# Altium integrated library FPGA Legacy Peripherals.IntLib: 30 symbols
Pins are listed as number, name and electrical type; pins without a type are passive.

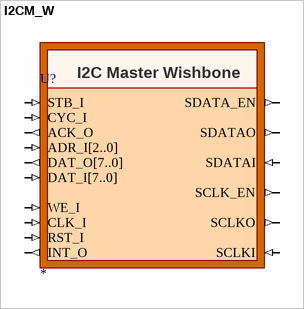
[diagram p0: symbol I2CM_W]

## I2CM_W
designator U?
I2C Master Wishbone; UseInDSF: True; Published: 9-Dec-2004; Publisher: Altium Limited; ComponentLink1Description: Core &Resource Usage; ComponentLink1URL: CR0139 FPGA Peripheral Resource Usage.pdf#page=17; HelpURL: https://wiki.altium.com/download/attachments/3080710/CR0105+I2CM+Controller.PDF?version=1; LastRevisionNo: 1.00.00
pins: ACK_O (out), ADR_I[2..0] (in), CLK_I (in), CYC_I (in), DAT_I[7..0] (in), DAT_O[7..0] (out), INT_O (out), RST_I (in), SCLK_EN (out), SCLKI (in), SCLKO (out), SDATA_EN (out), SDATAI (in), SDATAO (out), STB_I (in), WE_I (in)


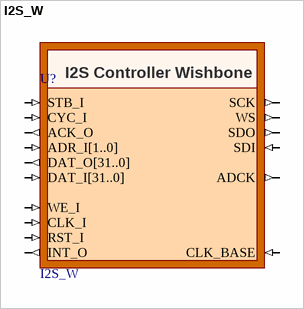
[diagram p1: symbol I2S_W]

## I2S_W
designator U?
I2S Controller Wishbone; UseInDSF: True; ComponentLink1Description: Core &Resource Usage; ComponentLink1URL: CR0139 FPGA Peripheral Resource Usage.pdf#page=18; HelpURL: https://wiki.altium.com/download/attachments/3080708/CR0160+I2S_W+Audio+Streaming+Controller.PDF?version=1; LastRevisionNo: 1.00.00; Published: 27-Mar-2005; Publisher: Altium Limited
pins: ACK_O (out), ADCK (out), ADR_I[1..0] (in), CLK_BASE (in), CLK_I (in), CYC_I (in), DAT_I[31..0] (in), DAT_O[31..0] (out), INT_O (out), RST_I (in), SCK (out), SDI (in), SDO (out), STB_I (in), WE_I (in), WS (out)


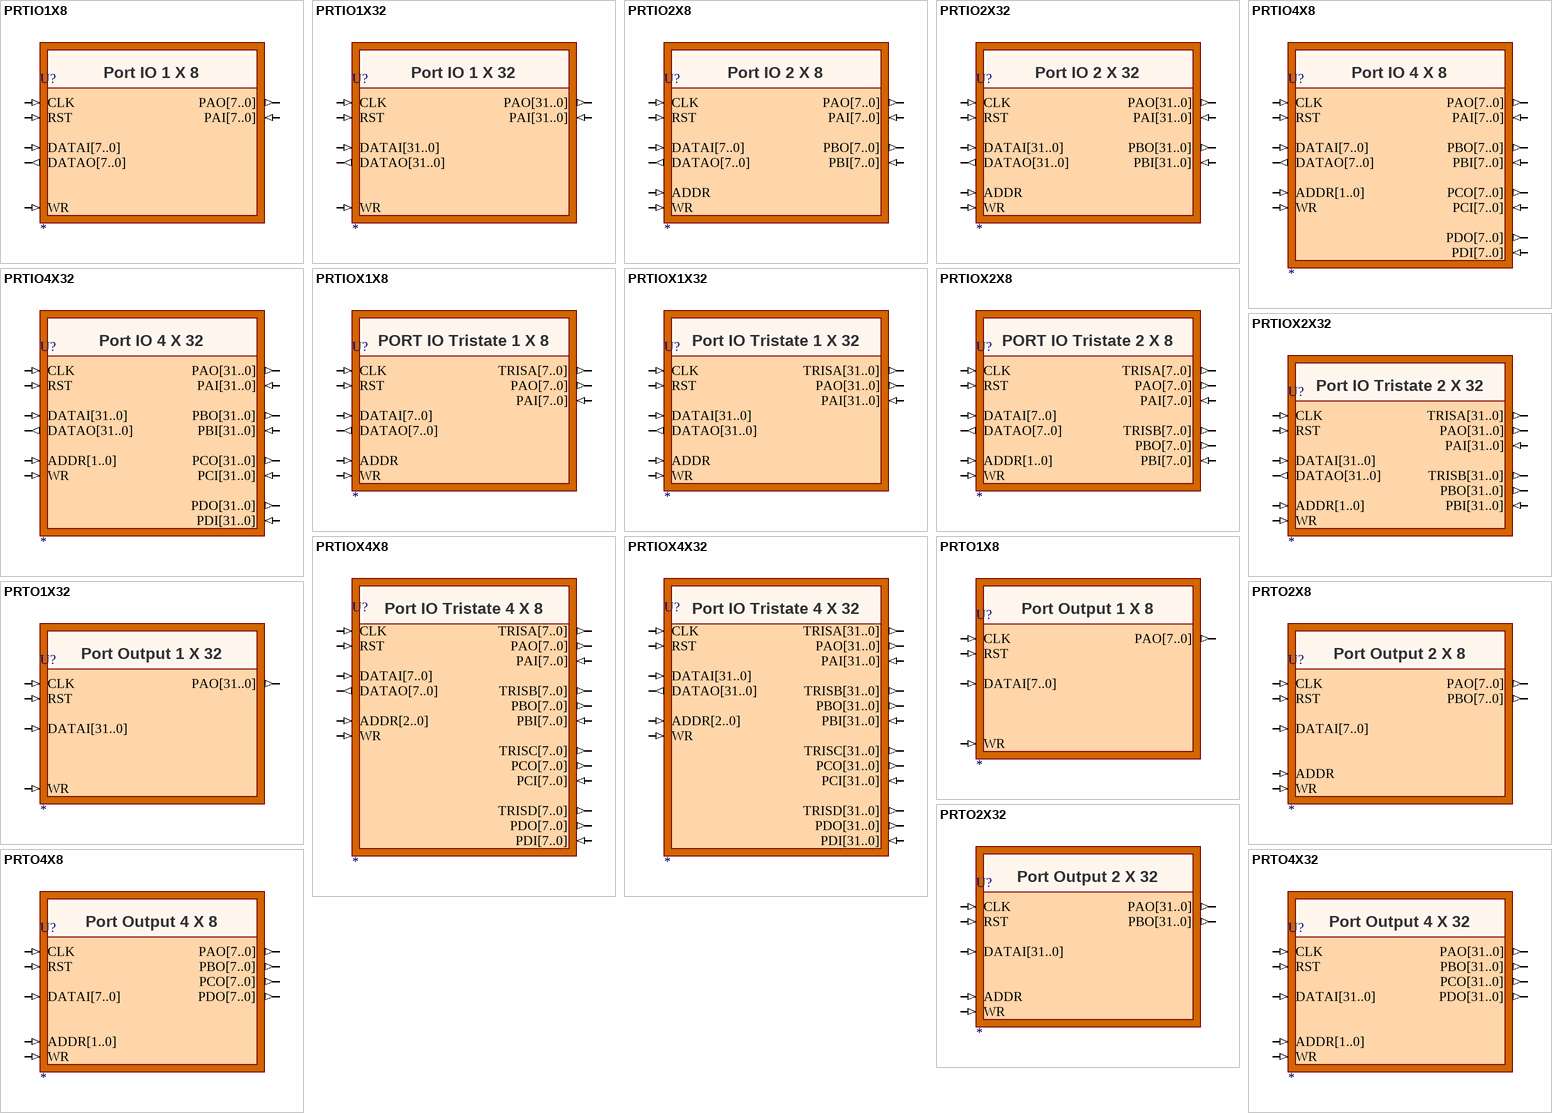
[diagram p2: symbols PRTIO1X8 to PRTO4X32]

## PRTIO1X8
designator U?
Port IO 1 x 8; Published: 9-Dec-2004; Publisher: Altium Limited; ComponentLink1Description: Core &Resource Usage; ComponentLink1URL: CR0139 FPGA Peripheral Resource Usage.pdf#page=26; HelpURL: https://wiki.altium.com/download/attachments/3080710/CR0108+PRTx+Parallel+Port+Unit.PDF?version=1; LastRevisionNo: 1.00.00
pins: CLK (in), DATAI[7..0] (in), DATAO[7..0] (out), PAI[7..0] (in), PAO[7..0] (out), RST (in), WR (in)
text: Port IO 1 X 8

## PRTIO1X32
designator U?
Port IO 1 x 32; Published: 9-Dec-2004; Publisher: Altium Limited; ComponentLink1Description: Core &Resource Usage; ComponentLink1URL: CR0139 FPGA Peripheral Resource Usage.pdf#page=28; HelpURL: https://wiki.altium.com/download/attachments/3080710/CR0108+PRTx+Parallel+Port+Unit.PDF?version=1; LastRevisionNo: 1.00.00
pins: CLK (in), DATAI[31..0] (in), DATAO[31..0] (out), PAI[31..0] (in), PAO[31..0] (out), RST (in), WR (in)
text: Port IO 1 X 32

## PRTIO2X8
designator U?
Port IO 2 x 8; Published: 9-Dec-2004; Publisher: Altium Limited; ComponentLink1Description: Core &Resource Usage; ComponentLink1URL: CR0139 FPGA Peripheral Resource Usage.pdf#page=30; HelpURL: https://wiki.altium.com/download/attachments/3080710/CR0108+PRTx+Parallel+Port+Unit.PDF?version=1; LastRevisionNo: 1.00.00
pins: ADDR (in), CLK (in), DATAI[7..0] (in), DATAO[7..0] (out), PAI[7..0] (in), PAO[7..0] (out), PBI[7..0] (in), PBO[7..0] (out), RST (in), WR (in)
text: Port IO 2 X 8

## PRTIO2X32
designator U?
Port IO 2 x 32; Published: 9-Dec-2004; Publisher: Altium Limited; ComponentLink1Description: Core &Resource Usage; ComponentLink1URL: CR0139 FPGA Peripheral Resource Usage.pdf#page=32; HelpURL: https://wiki.altium.com/download/attachments/3080710/CR0108+PRTx+Parallel+Port+Unit.PDF?version=1; LastRevisionNo: 1.00.00
pins: ADDR (in), CLK (in), DATAI[31..0] (in), DATAO[31..0] (out), PAI[31..0] (in), PAO[31..0] (out), PBI[31..0] (in), PBO[31..0] (out), RST (in), WR (in)
text: Port IO 2 X 32

## PRTIO4X8
designator U?
Port IO 4 x 8; Published: 9-Dec-2004; Publisher: Altium Limited; ComponentLink1Description: Core &Resource Usage; ComponentLink1URL: CR0139 FPGA Peripheral Resource Usage.pdf#page=34; HelpURL: https://wiki.altium.com/download/attachments/3080710/CR0108+PRTx+Parallel+Port+Unit.PDF?version=1; LastRevisionNo: 1.00.00
pins: ADDR[1..0] (in), CLK (in), DATAI[7..0] (in), DATAO[7..0] (out), PAI[7..0] (in), PAO[7..0] (out), PBI[7..0] (in), PBO[7..0] (out), PCI[7..0] (in), PCO[7..0] (out), PDI[7..0] (in), PDO[7..0] (out), RST (in), WR (in)
text: Port IO 4 X 8

## PRTIO4X32
designator U?
Port IO 4 x 32; Published: 9-Dec-2004; Publisher: Altium Limited; ComponentLink1Description: Core &Resource Usage; ComponentLink1URL: CR0139 FPGA Peripheral Resource Usage.pdf#page=36; HelpURL: https://wiki.altium.com/download/attachments/3080710/CR0108+PRTx+Parallel+Port+Unit.PDF?version=1; LastRevisionNo: 1.00.00
pins: ADDR[1..0] (in), CLK (in), DATAI[31..0] (in), DATAO[31..0] (out), PAI[31..0] (in), PAO[31..0] (out), PBI[31..0] (in), PBO[31..0] (out), PCI[31..0] (in), PCO[31..0] (out), PDI[31..0] (in), PDO[31..0] (out), RST (in), WR (in)
text: Port IO 4 X 32

## PRTIOX1X8
designator U?
Port IO Tristate 1 x 8; Published: 9-Dec-2004; Publisher: Altium Limited; ComponentLink1Description: Core &Resource Usage; ComponentLink1URL: CR0139 FPGA Peripheral Resource Usage.pdf#page=37; HelpURL: https://wiki.altium.com/download/attachments/3080710/CR0108+PRTx+Parallel+Port+Unit.PDF?version=1; LastRevisionNo: 1.00.00
pins: ADDR (in), CLK (in), DATAI[7..0] (in), DATAO[7..0] (out), PAI[7..0] (in), PAO[7..0] (out), RST (in), TRISA[7..0] (out), WR (in)
text: PORT IO Tristate 1 X 8

## PRTIOX1X32
designator U?
Port IO Tristate 1 x 32; Published: 9-Dec-2004; Publisher: Altium Limited; HelpURL: https://wiki.altium.com/download/attachments/3080710/CR0108+PRTx+Parallel+Port+Unit.PDF?version=1; LastRevisionNo: 1.00.00; ComponentLink1Description: Core &Resource Usage; ComponentLink1URL: CR0139 FPGA Peripheral Resource Usage.pdf#page=39
pins: ADDR (in), CLK (in), DATAI[31..0] (in), DATAO[31..0] (out), PAI[31..0] (in), PAO[31..0] (out), RST (in), TRISA[31..0] (out), WR (in)
text: Port IO Tristate 1 X 32

## PRTIOX2X8
designator U?
Port IO Tristate 2 x 8; Published: 9-Dec-2004; Publisher: Altium Limited; ComponentLink1Description: Core &Resource Usage; ComponentLink1URL: CR0139 FPGA Peripheral Resource Usage.pdf#page=41; HelpURL: https://wiki.altium.com/download/attachments/3080710/CR0108+PRTx+Parallel+Port+Unit.PDF?version=1; LastRevisionNo: 1.00.00
pins: ADDR[1..0] (in), CLK (in), DATAI[7..0] (in), DATAO[7..0] (out), PAI[7..0] (in), PAO[7..0] (out), PBI[7..0] (in), PBO[7..0] (out), RST (in), TRISA[7..0] (out), TRISB[7..0] (out), WR (in)
text: PORT IO Tristate 2 X 8

## PRTIOX2X32
designator U?
Port IO Tristate 2 x 32; Published: 9-Dec-2004; Publisher: Altium Limited; HelpURL: https://wiki.altium.com/download/attachments/3080710/CR0108+PRTx+Parallel+Port+Unit.PDF?version=1; LastRevisionNo: 1.00.00; ComponentLink1Description: Core &Resource Usage; ComponentLink1URL: CR0139 FPGA Peripheral Resource Usage.pdf#page=43
pins: ADDR[1..0] (in), CLK (in), DATAI[31..0] (in), DATAO[31..0] (out), PAI[31..0] (in), PAO[31..0] (out), PBI[31..0] (in), PBO[31..0] (out), RST (in), TRISA[31..0] (out), TRISB[31..0] (out), WR (in)
text: Port IO Tristate 2 X 32

## PRTIOX4X8
designator U?
Port IO Tristate 4 x 8; Published: 9-Dec-2004; Publisher: Altium Limited; ComponentLink1Description: Core &Resource Usage; ComponentLink1URL: CR0139 FPGA Peripheral Resource Usage.pdf#page=44; HelpURL: https://wiki.altium.com/download/attachments/3080710/CR0108+PRTx+Parallel+Port+Unit.PDF?version=1; LastRevisionNo: 1.00.00
pins: ADDR[2..0] (in), CLK (in), DATAI[7..0] (in), DATAO[7..0] (out), PAI[7..0] (in), PAO[7..0] (out), PBI[7..0] (in), PBO[7..0] (out), PCI[7..0] (in), PCO[7..0] (out), PDI[7..0] (in), PDO[7..0] (out), RST (in), TRISA[7..0] (out), TRISB[7..0] (out), TRISC[7..0] (out), TRISD[7..0] (out), WR (in)
text: Port IO Tristate 4 X 8

## PRTIOX4X32
designator U?
Port IO Tristate 4 x 32; Published: 9-Dec-2004; Publisher: Altium Limited; HelpURL: https://wiki.altium.com/download/attachments/3080710/CR0108+PRTx+Parallel+Port+Unit.PDF?version=1; LastRevisionNo: 1.00.00; ComponentLink1Description: Core &Resource Usage; ComponentLink1URL: CR0139 FPGA Peripheral Resource Usage.pdf#page=46
pins: ADDR[2..0] (in), CLK (in), DATAI[31..0] (in), DATAO[31..0] (out), PAI[31..0] (in), PAO[31..0] (out), PBI[31..0] (in), PBO[31..0] (out), PCI[31..0] (in), PCO[31..0] (out), PDI[31..0] (in), PDO[31..0] (out), RST (in), TRISA[31..0] (out), TRISB[31..0] (out), TRISC[31..0] (out), TRISD[31..0] (out), WR (in)
text: Port IO Tristate 4 X 32

## PRTO1X8
designator U?
Port Output 1x8; Published: 9-Dec-2004; Publisher: Altium Limited; ComponentLink1Description: Core &Resource Usage; ComponentLink1URL: CR0139 FPGA Peripheral Resource Usage.pdf#page=47; HelpURL: https://wiki.altium.com/download/attachments/3080710/CR0108+PRTx+Parallel+Port+Unit.PDF?version=1; LastRevisionNo: 1.00.00
pins: CLK (in), DATAI[7..0] (in), PAO[7..0] (out), RST (in), WR (in)
text: Port Output 1 X 8

## PRTO1X32
designator U?
Port Output 1x32; Published: 9-Dec-2004; Publisher: Altium Limited; ComponentLink1Description: Core &Resource Usage; ComponentLink1URL: CR0139 FPGA Peripheral Resource Usage.pdf#page=49; HelpURL: https://wiki.altium.com/download/attachments/3080710/CR0108+PRTx+Parallel+Port+Unit.PDF?version=1; LastRevisionNo: 1.00.00
pins: CLK (in), DATAI[31..0] (in), PAO[31..0] (out), RST (in), WR (in)
text: Port Output 1 X 32

## PRTO2X8
designator U?
Port Output 2x8; Published: 9-Dec-2004; Publisher: Altium Limited; ComponentLink1Description: Core &Resource Usage; ComponentLink1URL: CR0139 FPGA Peripheral Resource Usage.pdf#page=51; HelpURL: https://wiki.altium.com/download/attachments/3080710/CR0108+PRTx+Parallel+Port+Unit.PDF?version=1; LastRevisionNo: 1.00.00
pins: ADDR (in), CLK (in), DATAI[7..0] (in), PAO[7..0] (out), PBO[7..0] (out), RST (in), WR (in)
text: Port Output 2 X 8

## PRTO2X32
designator U?
Port Output 2x32; Published: 9-Dec-2004; Publisher: Altium Limited; ComponentLink1Description: Core &Resource Usage; ComponentLink1URL: CR0139 FPGA Peripheral Resource Usage.pdf#page=53; HelpURL: https://wiki.altium.com/download/attachments/3080710/CR0108+PRTx+Parallel+Port+Unit.PDF?version=1; LastRevisionNo: 1.00.00
pins: ADDR (in), CLK (in), DATAI[31..0] (in), PAO[31..0] (out), PBO[31..0] (out), RST (in), WR (in)
text: Port Output 2 X 32

## PRTO4X8
designator U?
Port Output 4x8; Published: 9-Dec-2004; Publisher: Altium Limited; ComponentLink1Description: Core &Resource Usage; ComponentLink1URL: CR0139 FPGA Peripheral Resource Usage.pdf#page=55; HelpURL: https://wiki.altium.com/download/attachments/3080710/CR0108+PRTx+Parallel+Port+Unit.PDF?version=1; LastRevisionNo: 1.00.00
pins: ADDR[1..0] (in), CLK (in), DATAI[7..0] (in), PAO[7..0] (out), PBO[7..0] (out), PCO[7..0] (out), PDO[7..0] (out), RST (in), WR (in)
text: Port Output 4 X 8

## PRTO4X32
designator U?
Port Output 4x32; Published: 9-Dec-2004; Publisher: Altium Limited; ComponentLink1Description: Core &Resource Usage; ComponentLink1URL: CR0139 FPGA Peripheral Resource Usage.pdf#page=57; HelpURL: https://wiki.altium.com/download/attachments/3080710/CR0108+PRTx+Parallel+Port+Unit.PDF?version=1; LastRevisionNo: 1.00.00
pins: ADDR[1..0] (in), CLK (in), DATAI[31..0] (in), PAO[31..0] (out), PBO[31..0] (out), PCO[31..0] (out), PDO[31..0] (out), RST (in), WR (in)
text: Port Output 4 X 32


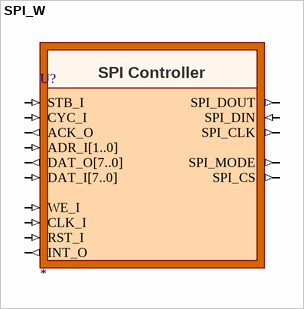
[diagram p3: symbol SPI_W]

## SPI_W
designator U?
SPI Controller Wishbone; UseInDSF: True; Published: 9-Dec-2004; Publisher: Altium Limited; ComponentLink1Description: Core &Resource Usage; ComponentLink1URL: CR0139 FPGA Peripheral Resource Usage.pdf#page=61; HelpURL: https://wiki.altium.com/download/attachments/3080708/CR0153+SPI_W+Serial+Peripheral+Interface+Controller.PDF?version=1; LastRevisionNo: 1.05.01; LatestRevisionNote: Correction for the busy signal generation; LatestRevisionDate: 6-Sep-2005
pins: ACK_O (out), ADR_I[1..0] (in), CLK_I (in), CYC_I (in), DAT_I[7..0] (in), DAT_O[7..0] (out), INT_O (out), RST_I (in), SPI_CLK (out), SPI_CS (out), SPI_DIN (in), SPI_DOUT (out), SPI_MODE (out), STB_I (in), WE_I (in)
text: SPI Controller


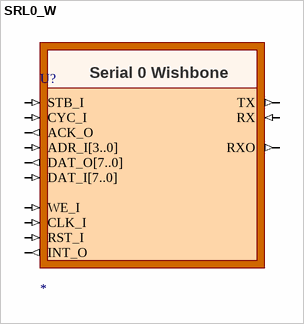
[diagram p4: symbol SRL0_W]

## SRL0_W
designator U?
Serial 0 Wishbone; UseInDSF: True; Published: 9-Dec-2004; Publisher: Altium Limited; ComponentLink1Description: Core &Resource Usage; ComponentLink1URL: CR0139 FPGA Peripheral Resource Usage.pdf#page=63; HelpURL: https://wiki.altium.com/download/attachments/3080710/CR0111+SRL0+Serial+Port+Unit.PDF?version=1; LastRevisionNo: 1.00.00
pins: ACK_O (out), ADR_I[3..0] (in), CLK_I (in), CYC_I (in), DAT_I[7..0] (in), DAT_O[7..0] (out), INT_O (out), RST_I (in), RX (in), RXO (out), STB_I (in), TX (out), WE_I (in)


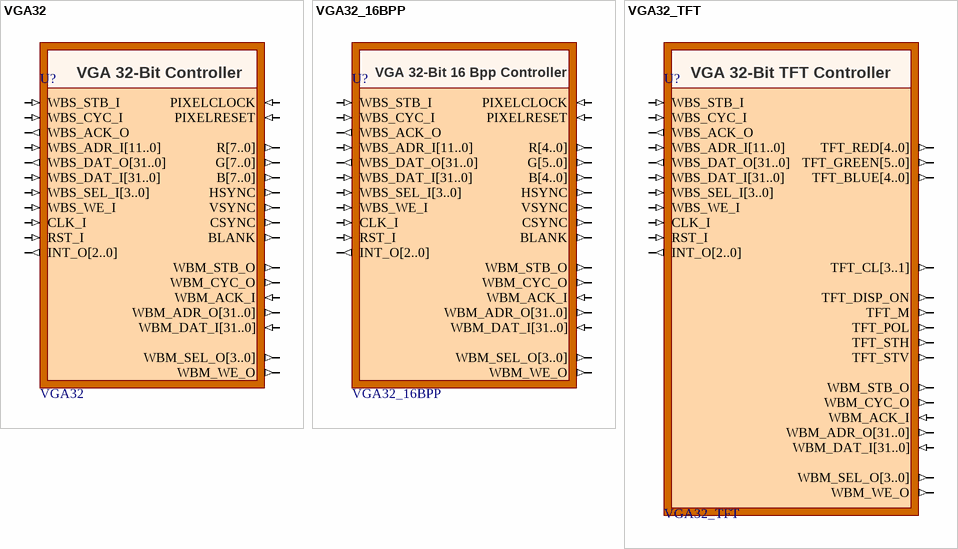
[diagram p5: symbols VGA32 to VGA32_TFT]

## VGA32
designator U?
VGA 32-Bit Controller; UseInDSF: True; ComponentLink1Description: Core &Resource Usage; ComponentLink1URL: CR0139 FPGA Peripheral Resource Usage.pdf#page=67; HelpURL: https://wiki.altium.com/display/ADOH/VGA32+-+Wishbone+32-bit+VGA+Controller; LastRevisionNo: 1.00.00; Published: 9-Dec-2004; Publisher: Altium Limited
pins: B[7..0] (out), BLANK (out), CLK_I (in), CSYNC (out), G[7..0] (out), HSYNC (out), INT_O[2..0] (out), PIXELCLOCK (in), PIXELRESET (in), R[7..0] (out), RST_I (in), VSYNC (out), WBM_ACK_I (in), WBM_ADR_O[31..0] (out), WBM_CYC_O (out), WBM_DAT_I[31..0] (in), WBM_SEL_O[3..0] (out), WBM_STB_O (out), WBM_WE_O (out), WBS_ACK_O (out), WBS_ADR_I[11..0] (in), WBS_CYC_I (in), WBS_DAT_I[31..0] (in), WBS_DAT_O[31..0] (out), WBS_SEL_I[3..0] (in), WBS_STB_I (in), WBS_WE_I (in)

## VGA32_16BPP
designator U?
VGA 32-Bit 16 Bpp Controller; UseInDSF: True; ComponentLink1Description: Core &Resource Usage; ComponentLink1URL: CR0139 FPGA Peripheral Resource Usage.pdf#page=68; HelpURL: https://wiki.altium.com/display/ADOH/VGA32_16BPP+-+Wishbone+32-bit+VGA+Controller+with+16bpp+Data+Support; LastRevisionNo: 1.00.00; Published: 27-Mar-2005; Publisher: Altium Limited
pins: B[4..0] (out), BLANK (out), CLK_I (in), CSYNC (out), G[5..0] (out), HSYNC (out), INT_O[2..0] (out), PIXELCLOCK (in), PIXELRESET (in), R[4..0] (out), RST_I (in), VSYNC (out), WBM_ACK_I (in), WBM_ADR_O[31..0] (out), WBM_CYC_O (out), WBM_DAT_I[31..0] (in), WBM_SEL_O[3..0] (out), WBM_STB_O (out), WBM_WE_O (out), WBS_ACK_O (out), WBS_ADR_I[11..0] (in), WBS_CYC_I (in), WBS_DAT_I[31..0] (in), WBS_DAT_O[31..0] (out), WBS_SEL_I[3..0] (in), WBS_STB_I (in), WBS_WE_I (in)

## VGA32_TFT
designator U?
VGA 32-Bit TFT Controller; UseInDSF: True; ComponentLink1Description: Core &Resource Usage; ComponentLink1URL: CR0139 FPGA Peripheral Resource Usage.pdf#page=69; HelpURL: https://wiki.altium.com/display/ADOH/VGA32_TFT+-+Wishbone+32-bit+VGA+Controller+with+TFT+Interface; LastRevisionNo: 1.00.00; Published: 27-Mar-2005; Publisher: Altium Limited
pins: CLK_I (in), INT_O[2..0] (out), RST_I (in), TFT_BLUE[4..0] (out), TFT_CL[3..1] (out), TFT_DISP_ON (out), TFT_GREEN[5..0] (out), TFT_M (out), TFT_POL (out), TFT_RED[4..0] (out), TFT_STH (out), TFT_STV (out), WBM_ACK_I (in), WBM_ADR_O[31..0] (out), WBM_CYC_O (out), WBM_DAT_I[31..0] (in), WBM_SEL_O[3..0] (out), WBM_STB_O (out), WBM_WE_O (out), WBS_ACK_O (out), WBS_ADR_I[11..0] (in), WBS_CYC_I (in), WBS_DAT_I[31..0] (in), WBS_DAT_O[31..0] (out), WBS_SEL_I[3..0] (in), WBS_STB_I (in), WBS_WE_I (in)


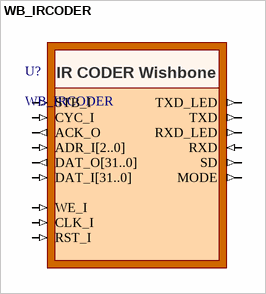
[diagram p6: symbol WB_IRCODER]

## WB_IRCODER
designator U?
ComponentLink1Description: Core &Resource Usage; LastRevisionNo: 1.00.00; Published: 31-Jul-2007; Publisher: Altium Limited; HelpURL: https://wiki.altium.com/download/attachments/3080708/CR0183+WB_IRCODER+Infrared+Encoder.PDF?version=1
pins: ACK_O (out), ADR_I[2..0] (in), CLK_I (in), CYC_I (in), DAT_I[31..0] (in), DAT_O[31..0] (out), MODE (out), RST_I (in), RXD (in), RXD_LED (out), SD (out), STB_I (in), TXD (out), TXD_LED (out), WE_I (in)
text: IR CODER Wishbone


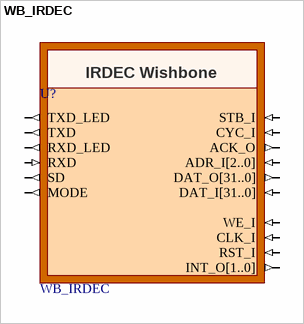
[diagram p7: symbol WB_IRDEC]

## WB_IRDEC
designator U?
UseInDSF: True; ComponentLink1Description: Core &Resource Usage; LastRevisionNo: 1.00.00; Published: 8-Jun-2007; Publisher: Altium Limited; ComponentLink1URL: CR0139 FPGA Peripheral Resource Usage.pdf#page=82; HelpURL: https://wiki.altium.com/download/attachments/3080708/CR0173+WB_IRDEC+Infrared+Decoder.PDF?version=1
pins: ACK_O (out), ADR_I[2..0] (in), CLK_I (in), CYC_I (in), DAT_I[31..0] (in), DAT_O[31..0] (out), INT_O[1..0] (out), MODE (out), RST_I (in), RXD (in), RXD_LED (out), SD (out), STB_I (in), TXD (out), TXD_LED (out), WE_I (in)
text: IRDEC Wishbone


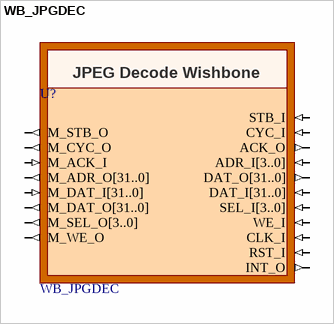
[diagram p8: symbol WB_JPGDEC]

## WB_JPGDEC
designator U?
JPEG Decoder Wishbone; ChildModel1: Memory_M_HUFF; ChildModel2: Memory_M_QT; ChildModel3: Memory_M_MDU; ChildModel4: Memory_M_IDCT; ChildModel5: PROCESS_SOS.MDU_ADDR_1_0_5_0_.hex; ChildModel6: Memory_M_IDCT_prim0.edn; ChildModel7: Memory_M_QT_prim0.edn; ChildModel8: Memory_M_HUFF_prim0.edn; UseInDSF: True; ChildModel9: Memory_M_MDU_prim0.edn; ChildModel10: init_file_0.hex; ComponentLink1Description: Core &Resource Usage; LastRevisionNo: 1.00.00; Published: 22-Nov-2006; Publisher: Altium Limited; ComponentLink1URL: CR0139 FPGA Peripheral Resource Usage.pdf#page=46; HelpURL: https://wiki.altium.com/download/attachments/3080708/CR0174+WB_JPGDEC+JPEG+Decoder.PDF?version=1
pins: ACK_O (out), ADR_I[3..0] (in), CLK_I (in), CYC_I (in), DAT_I[31..0] (in), DAT_O[31..0] (out), INT_O (out), M_ACK_I (in), M_ADR_O[31..0] (out), M_CYC_O (out), M_DAT_I[31..0] (in), M_DAT_O[31..0] (out), M_SEL_O[3..0] (out), M_STB_O (out), M_WE_O (out), RST_I (in), SEL_I[3..0] (in), STB_I (in), WE_I (in)
text: JPEG Decode Wishbone


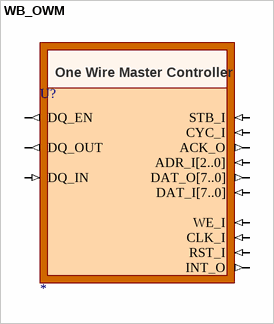
[diagram p9: symbol WB_OWM]

## WB_OWM
designator U?
Wishbone One Wire Master Controller; UseInDSF: True; LastRevisionNo: 1.00.00; Published: 12-Jul-2007; Publisher: Altium Limited; ComponentLink1Description: Core &Resource Usage; ComponentLink1URL: CR0139 FPGA Peripheral Resource Usage.pdf#page=97; HelpURL: https://wiki.altium.com/display/ADOH/WB_OWM+-+Wishbone+1-Wire+Master+Controller
pins: ACK_O (out), ADR_I[2..0] (in), CLK_I (in), CYC_I (in), DAT_I[7..0] (in), DAT_O[7..0] (out), DQ_EN (out), DQ_IN (in), DQ_OUT (out), INT_O (out), RST_I (in), STB_I (in), WE_I (in)
text: One Wire Master Controller


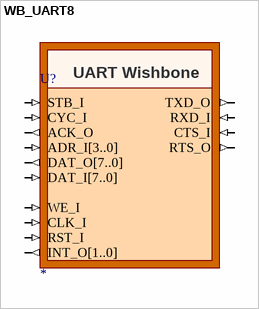
[diagram p10: symbol WB_UART8]

## WB_UART8
designator U?
UART Buffered with handshake, Wishbone; UseInDSF: True; LastRevisionNo: 1.00.00; Published: 6-Jun-2005; Publisher: Altium Limited; ComponentLink1Description: Core &Resource Usage; ComponentLink1URL: CR0139 FPGA Peripheral Resource Usage.pdf#page=118; HelpURL: https://wiki.altium.com/download/attachments/3080708/CR0157+WB_UART8+Serial+Communications+Port.PDF?version=1
pins: ACK_O (out), ADR_I[3..0] (in), CLK_I (in), CTS_I (in), CYC_I (in), DAT_I[7..0] (in), DAT_O[7..0] (out), INT_O[1..0] (out), RST_I (in), RTS_O (out), RXD_I (in), STB_I (in), TXD_O (out), WE_I (in)
text: UART Wishbone